# Altium integrated library Analog Devices Operational Amplifiers.IntLib: 2102 symbols (part 56 of 70)
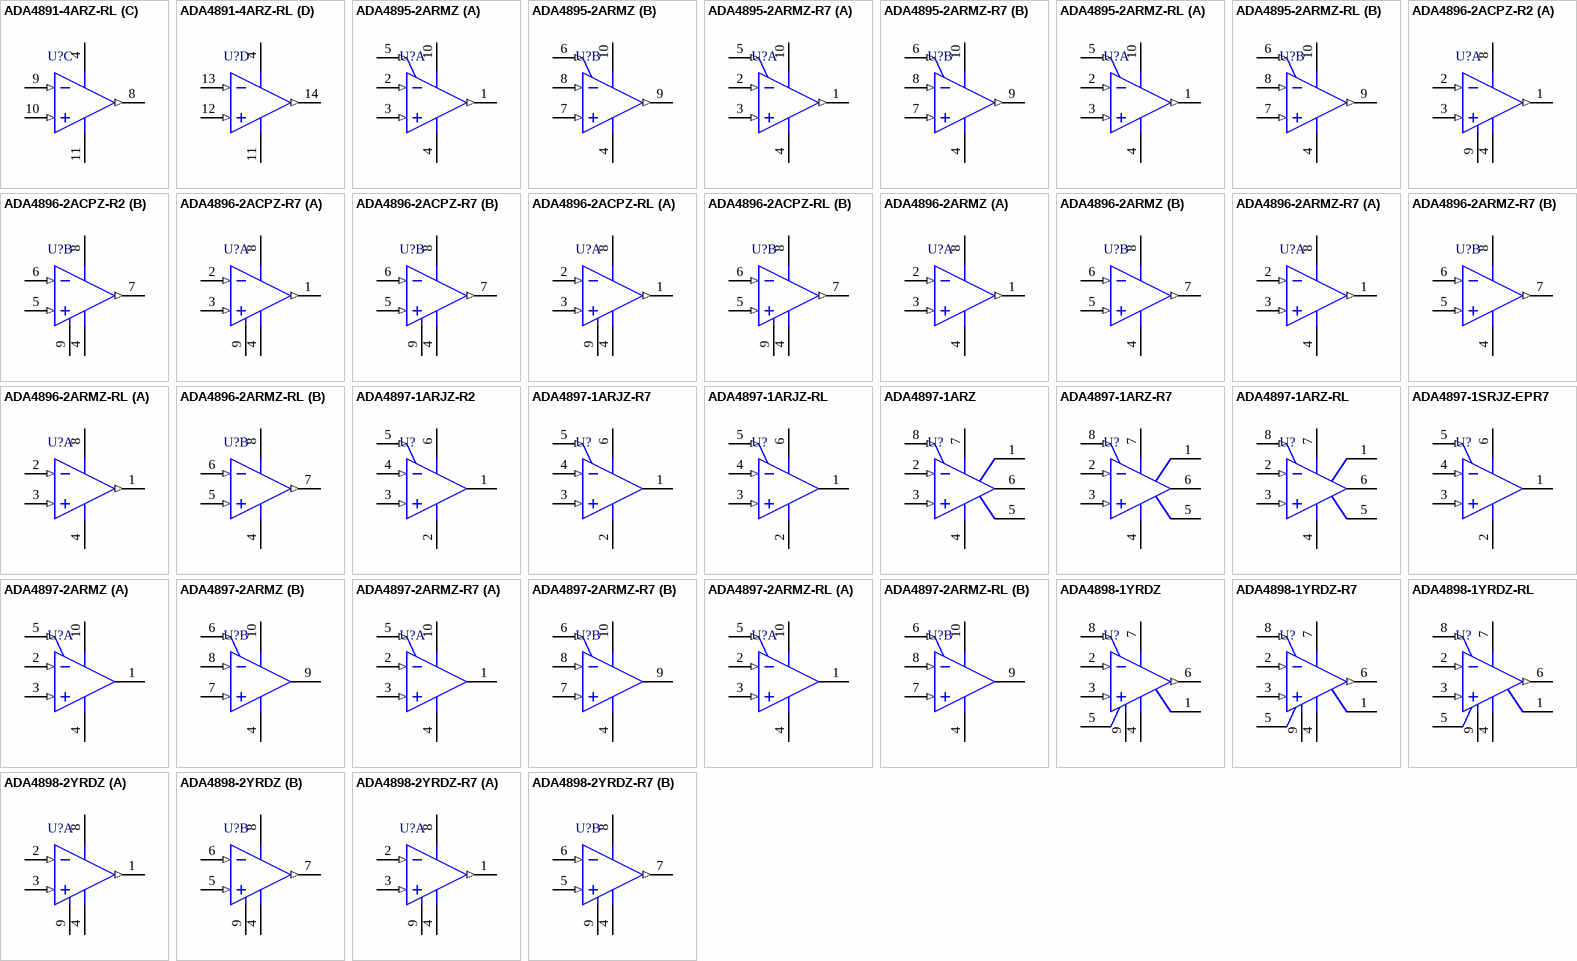
[diagram p169: symbols ADA4891-4ARZ-RL to ADA4898-2YRDZ-R7]

## ADA4895-2ARMZ-R7
designator U?
Double Channel Low Wide Band Noise Operational Amplifier, 236 MHz BW, 943 V/us SR, Industrial, 10-pin SOP (RM-10), Reel; Generic Part Number: ADA4895-2; Manufacturer: Analog Devices; PartNumber: ADA4895-2ARMZ-R7; Amplifiers Per Package: 2; Input Bias Current: 11uA; Input Offset Voltage: 28uV; Iq/Amp: 3mA; Small Signal Bandwidth: 236MHz; V Span Max: 10V; V Span Min: 3V; DatasheetVersion: Rev. 0; PackageReference: RM-10; PackageDescription: 10-Pin Mini Small Outline Package, Body 3 x 3 mm, Pitch 0.5 mm; Supplier 1: Digi-Key; Supplier Part Number 1: ADA4895-2ARMZ-R7TR-ND; Supplier 2: Digi-Key; Supplier Part Number 2: ADA4895-2ARMZ-R7CT-ND; Supplier 3: Digi-Key; Supplier Part Number 3: ADA4895-2ARMZ-R7DKR-ND; Supplier 4: Farnell; Supplier Part Number 4: 2250673; Supplier 5: Newark; Supplier Part Number 5: 45W7015; Supplier 6: Newark; Supplier Part Number 6: 47W3297; Packing: Reel; Slew Rate: 943V/us; Mounting Technology: Surface Mount; Code_JEDEC: MO-187-BA; ComponentLink1Description: Manufacturer URL; ComponentLink1URL: http://www.analog.com/en/index.html; ComponentLink2Description: Datasheet; ComponentLink2URL: http://www.analog.com/static/imported-files/data_sheets/ADA4895-2.PDF; ComponentLink3Description: Package Specification; ComponentLink3URL: http://www.analog.com/static/imported-files/packages/PKG_PDF/MSOP%28RM%29/RM_10.pdf
footprint ADI-RM-10_N (SOP, 10-Leads, Body 3x3mm, Pitch 0.5mm, IPC Medium Density)
footprint ADI-RM-10_L (SOP, 10-Leads, Body 3x3mm, Pitch 0.5mm, IPC High Density)
footprint ADI-RM-10_M (SOP, 10-Leads, Body 3x3mm, Pitch 0.5mm, IPC Low Density)
pins on every part: 4 -VS (power) "Negative Supply.", 10 +VS (power) "Positive Supply."
part A pins: 1 OUT 1 (out) "Output 1.", 2 -IN 1 (in) "Inverting Input 1.", 3 +IN 1 (in) "Noninverting Input 1.", 5 ~{DISABLE1} (in) "Disable 1."
part B pins: 6 ~{DISABLE2} (in) "Disable 2.", 7 +IN 2 (in) "Noninverting Input 2.", 8 -IN 2 (in) "Inverting Input 2.", 9 OUT 2 (out) "Output 2."

## ADA4895-2ARMZ-RL
designator U?
Double Channel Low Wide Band Noise Operational Amplifier, 236 MHz BW, 943 V/us SR, Industrial, 10-pin SOP (RM-10), Reel; Generic Part Number: ADA4895-2; Manufacturer: Analog Devices; PartNumber: ADA4895-2ARMZ-RL; Amplifiers Per Package: 2; Input Bias Current: 11uA; Input Offset Voltage: 28uV; Iq/Amp: 3mA; Small Signal Bandwidth: 236MHz; V Span Max: 10V; V Span Min: 3V; DatasheetVersion: Rev. 0; PackageReference: RM-10; PackageDescription: 10-Pin Mini Small Outline Package, Body 3 x 3 mm, Pitch 0.5 mm; Supplier 1: Digi-Key; Supplier Part Number 1: ADA4895-2ARMZ-RL-ND; Supplier 2: Newark; Supplier Part Number 2: 45W7014; Packing: Reel; Slew Rate: 943V/us; Mounting Technology: Surface Mount; Code_JEDEC: MO-187-BA; ComponentLink1Description: Manufacturer URL; ComponentLink1URL: http://www.analog.com/en/index.html; ComponentLink2Description: Datasheet; ComponentLink2URL: http://www.analog.com/static/imported-files/data_sheets/ADA4895-2.PDF; ComponentLink3Description: Package Specification; ComponentLink3URL: http://www.analog.com/static/imported-files/packages/PKG_PDF/MSOP%28RM%29/RM_10.pdf
footprint ADI-RM-10_N (SOP, 10-Leads, Body 3x3mm, Pitch 0.5mm, IPC Medium Density)
footprint ADI-RM-10_L (SOP, 10-Leads, Body 3x3mm, Pitch 0.5mm, IPC High Density)
footprint ADI-RM-10_M (SOP, 10-Leads, Body 3x3mm, Pitch 0.5mm, IPC Low Density)
pins on every part: 4 -VS (power) "Negative Supply.", 10 +VS (power) "Positive Supply."
part A pins: 1 OUT 1 (out) "Output 1.", 2 -IN 1 (in) "Inverting Input 1.", 3 +IN 1 (in) "Noninverting Input 1.", 5 ~{DISABLE1} (in) "Disable 1."
part B pins: 6 ~{DISABLE2} (in) "Disable 2.", 7 +IN 2 (in) "Noninverting Input 2.", 8 -IN 2 (in) "Inverting Input 2.", 9 OUT 2 (out) "Output 2."

## ADA4896-2ACPZ-R2
designator U?
Double Channel Low Wide Band Noise Operational Amplifier, 230 MHz BW, 120 V/us SR, Industrial, 8-pin SON (CP-8-11), Reel; Generic Part Number: ADA4896-2; Manufacturer: Analog Devices; PartNumber: ADA4896-2ACPZ-R2; Amplifiers Per Package: 2; Input Bias Current: 11uA; Input Offset Voltage: 28uV; Iq/Amp: 3mA; Small Signal Bandwidth: 230MHz; V Span Max: 10V; V Span Min: 3V; DatasheetVersion: Rev. B; PackageVersion: 01-24-2011-B; PackageReference: CP-8-11; PackageDescription: 8-Pin Lead Frame Chip Scale Package, Body 3 x 3 mm, Pitch 0.5 mm; Packing: Reel; Slew Rate: 120V/us; Mounting Technology: Surface Mount; Code_JEDEC: MO-229-WEED; ComponentLink1Description: Manufacturer URL; ComponentLink1URL: http://www.analog.com/en/index.html; ComponentLink2Description: Datasheet; ComponentLink2URL: http://www.analog.com/static/imported-files/data_sheets/ADA4896-2_4897-1_4897-2.PDF; ComponentLink3Description: Package Specification; ComponentLink3URL: http://www.analog.com/static/imported-files/packages/PKG_PDF/LFCSP(CP)/CP_8_11.pdf
footprint ADI-CP-8-11_N (SON, 8-Leads, Body 3x3mm, Pitch 0.5mm, Thermal Pad 2.34 x 1.60mm, IPC Medium Density)
footprint ADI-CP-8-11_L (SON, 8-Leads, Body 3x3mm, Pitch 0.5mm, Thermal Pad 2.34 x 1.60mm, IPC High Density)
footprint ADI-CP-8-11_M (SON, 8-Leads, Body 3x3mm, Pitch 0.5mm, Thermal Pad 2.34 x 1.60mm, IPC Low Density)
pins on every part: 4 -VS (power), 8 +VS (power), 9 EP
part A pins: 1 OUT 1 (out), 2 -IN 1 (in), 3 +IN 1 (in)
part B pins: 5 +IN 2 (in), 6 -IN 2 (in), 7 OUT 2 (out)

## ADA4896-2ACPZ-R7
designator U?
Double Channel Low Wide Band Noise Operational Amplifier, 230 MHz BW, 120 V/us SR, Industrial, 8-pin SON (CP-8-11), Reel; Generic Part Number: ADA4896-2; Manufacturer: Analog Devices; PartNumber: ADA4896-2ACPZ-R7; Amplifiers Per Package: 2; Input Bias Current: 11uA; Input Offset Voltage: 28uV; Iq/Amp: 3mA; Small Signal Bandwidth: 230MHz; V Span Max: 10V; V Span Min: 3V; DatasheetVersion: Rev. B; PackageVersion: 01-24-2011-B; PackageReference: CP-8-11; PackageDescription: 8-Pin Lead Frame Chip Scale Package, Body 3 x 3 mm, Pitch 0.5 mm; Supplier 1: Digi-Key; Supplier Part Number 1: ADA4896-2ACPZ-R7-ND; Supplier 2: Newark; Supplier Part Number 2: 58T8813; Packing: Reel; Slew Rate: 120V/us; Mounting Technology: Surface Mount; Code_JEDEC: MO-229-WEED; ComponentLink1Description: Manufacturer URL; ComponentLink1URL: http://www.analog.com/en/index.html; ComponentLink2Description: Datasheet; ComponentLink2URL: http://www.analog.com/static/imported-files/data_sheets/ADA4896-2_4897-1_4897-2.PDF; ComponentLink3Description: Package Specification; ComponentLink3URL: http://www.analog.com/static/imported-files/packages/PKG_PDF/LFCSP(CP)/CP_8_11.pdf
footprint ADI-CP-8-11_N (SON, 8-Leads, Body 3x3mm, Pitch 0.5mm, Thermal Pad 2.34 x 1.60mm, IPC Medium Density)
footprint ADI-CP-8-11_L (SON, 8-Leads, Body 3x3mm, Pitch 0.5mm, Thermal Pad 2.34 x 1.60mm, IPC High Density)
footprint ADI-CP-8-11_M (SON, 8-Leads, Body 3x3mm, Pitch 0.5mm, Thermal Pad 2.34 x 1.60mm, IPC Low Density)
pins on every part: 4 -VS (power), 8 +VS (power), 9 EP
part A pins: 1 OUT 1 (out), 2 -IN 1 (in), 3 +IN 1 (in)
part B pins: 5 +IN 2 (in), 6 -IN 2 (in), 7 OUT 2 (out)

## ADA4896-2ACPZ-RL
designator U?
Double Channel Low Wide Band Noise Operational Amplifier, 230 MHz BW, 120 V/us SR, Industrial, 8-pin SON (CP-8-11), Reel; Generic Part Number: ADA4896-2; Manufacturer: Analog Devices; PartNumber: ADA4896-2ACPZ-RL; Amplifiers Per Package: 2; Input Bias Current: 11uA; Input Offset Voltage: 28uV; Iq/Amp: 3mA; Small Signal Bandwidth: 230MHz; V Span Max: 10V; V Span Min: 3V; DatasheetVersion: Rev. B; PackageVersion: 01-24-2011-B; PackageReference: CP-8-11; PackageDescription: 8-Pin Lead Frame Chip Scale Package, Body 3 x 3 mm, Pitch 0.5 mm; Supplier 1: Digi-Key; Supplier Part Number 1: ADA4896-2ACPZ-RL-ND; Packing: Reel; Slew Rate: 120V/us; Mounting Technology: Surface Mount; Code_JEDEC: MO-229-WEED; ComponentLink1Description: Manufacturer URL; ComponentLink1URL: http://www.analog.com/en/index.html; ComponentLink2Description: Datasheet; ComponentLink2URL: http://www.analog.com/static/imported-files/data_sheets/ADA4896-2_4897-1_4897-2.PDF; ComponentLink3Description: Package Specification; ComponentLink3URL: http://www.analog.com/static/imported-files/packages/PKG_PDF/LFCSP(CP)/CP_8_11.pdf
footprint ADI-CP-8-11_N (SON, 8-Leads, Body 3x3mm, Pitch 0.5mm, Thermal Pad 2.34 x 1.60mm, IPC Medium Density)
footprint ADI-CP-8-11_L (SON, 8-Leads, Body 3x3mm, Pitch 0.5mm, Thermal Pad 2.34 x 1.60mm, IPC High Density)
footprint ADI-CP-8-11_M (SON, 8-Leads, Body 3x3mm, Pitch 0.5mm, Thermal Pad 2.34 x 1.60mm, IPC Low Density)
pins on every part: 4 -VS (power), 8 +VS (power), 9 EP
part A pins: 1 OUT 1 (out), 2 -IN 1 (in), 3 +IN 1 (in)
part B pins: 5 +IN 2 (in), 6 -IN 2 (in), 7 OUT 2 (out)

## ADA4896-2ARMZ
designator U?
Double Channel Low Wide Band Noise Operational Amplifier, 230 MHz BW, 120 V/us SR, Industrial, 8-pin SOP (RM-8), Tube; Generic Part Number: ADA4896-2; Manufacturer: Analog Devices; PartNumber: ADA4896-2ARMZ; Amplifiers Per Package: 2; Input Bias Current: 11uA; Input Offset Voltage: 28uV; Iq/Amp: 3mA; Small Signal Bandwidth: 230MHz; V Span Max: 10V; V Span Min: 3V; DatasheetVersion: Rev. B; PackageReference: RM-8; PackageDescription: 8-Pin Mini Small Outline Package, Body 3 x 3 mm, Pitch 0.65 mm; Supplier 1: Digi-Key; Supplier Part Number 1: ADA4896-2ARMZ-ND; Supplier 2: Farnell; Supplier Part Number 2: 2008778; Supplier 3: Newark; Supplier Part Number 3: 58T8814; Packing: Tube; Slew Rate: 120V/us; Mounting Technology: Surface Mount; Code_JEDEC: MO-187-AA; ComponentLink1Description: Manufacturer URL; ComponentLink1URL: http://www.analog.com/en/index.html; ComponentLink2Description: Datasheet; ComponentLink2URL: http://www.analog.com/static/imported-files/data_sheets/ADA4896-2_4897-1_4897-2.PDF; ComponentLink3Description: Package Specification; ComponentLink3URL: http://www.analog.com/static/imported-files/packages/PKG_PDF/MSOP%28RM%29/RM_8.pdf
footprint ADI-RM-8_N (SOP, 8-Leads, Body 3x3mm, Pitch 0.65mm, IPC Medium Density)
footprint ADI-RM-8_L (SOP, 8-Leads, Body 3x3mm, Pitch 0.65mm, IPC High Density)
footprint ADI-RM-8_M (SOP, 8-Leads, Body 3x3mm, Pitch 0.65mm, IPC Low Density)
pins on every part: 4 -VS (power), 8 +VS (power)
part A pins: 1 OUT 1 (out), 2 -IN 1 (in), 3 +IN 1 (in)
part B pins: 5 +IN 2 (in), 6 -IN 2 (in), 7 OUT 2 (out)

## ADA4896-2ARMZ-R7
designator U?
Double Channel Low Wide Band Noise Operational Amplifier, 230 MHz BW, 120 V/us SR, Industrial, 8-pin SOP (RM-8), Reel; Generic Part Number: ADA4896-2; Manufacturer: Analog Devices; PartNumber: ADA4896-2ARMZ-R7; Amplifiers Per Package: 2; Input Bias Current: 11uA; Input Offset Voltage: 28uV; Iq/Amp: 3mA; Small Signal Bandwidth: 230MHz; V Span Max: 10V; V Span Min: 3V; DatasheetVersion: Rev. B; PackageReference: RM-8; PackageDescription: 8-Pin Mini Small Outline Package, Body 3 x 3 mm, Pitch 0.65 mm; Supplier 1: Digi-Key; Supplier Part Number 1: ADA4896-2ARMZ-R7TR-ND; Supplier 2: Digi-Key; Supplier Part Number 2: ADA4896-2ARMZ-R7CT-ND; Supplier 3: Digi-Key; Supplier Part Number 3: ADA4896-2ARMZ-R7DKR-ND; Supplier 4: Newark; Supplier Part Number 4: 58T8815; Packing: Reel; Slew Rate: 120V/us; Mounting Technology: Surface Mount; Code_JEDEC: MO-187-AA; ComponentLink1Description: Manufacturer URL; ComponentLink1URL: http://www.analog.com/en/index.html; ComponentLink2Description: Datasheet; ComponentLink2URL: http://www.analog.com/static/imported-files/data_sheets/ADA4896-2_4897-1_4897-2.PDF; ComponentLink3Description: Package Specification; ComponentLink3URL: http://www.analog.com/static/imported-files/packages/PKG_PDF/MSOP%28RM%29/RM_8.pdf
footprint ADI-RM-8_N (SOP, 8-Leads, Body 3x3mm, Pitch 0.65mm, IPC Medium Density)
footprint ADI-RM-8_L (SOP, 8-Leads, Body 3x3mm, Pitch 0.65mm, IPC High Density)
footprint ADI-RM-8_M (SOP, 8-Leads, Body 3x3mm, Pitch 0.65mm, IPC Low Density)
pins on every part: 4 -VS (power), 8 +VS (power)
part A pins: 1 OUT 1 (out), 2 -IN 1 (in), 3 +IN 1 (in)
part B pins: 5 +IN 2 (in), 6 -IN 2 (in), 7 OUT 2 (out)

## ADA4896-2ARMZ-RL
designator U?
Double Channel Low Wide Band Noise Operational Amplifier, 230 MHz BW, 120 V/us SR, Industrial, 8-pin SOP (RM-8), Reel; Generic Part Number: ADA4896-2; Manufacturer: Analog Devices; PartNumber: ADA4896-2ARMZ-RL; Amplifiers Per Package: 2; Input Bias Current: 11uA; Input Offset Voltage: 28uV; Iq/Amp: 3mA; Small Signal Bandwidth: 230MHz; V Span Max: 10V; V Span Min: 3V; DatasheetVersion: Rev. B; PackageReference: RM-8; PackageDescription: 8-Pin Mini Small Outline Package, Body 3 x 3 mm, Pitch 0.65 mm; Packing: Reel; Slew Rate: 120V/us; Mounting Technology: Surface Mount; Code_JEDEC: MO-187-AA; ComponentLink1Description: Manufacturer URL; ComponentLink1URL: http://www.analog.com/en/index.html; ComponentLink2Description: Datasheet; ComponentLink2URL: http://www.analog.com/static/imported-files/data_sheets/ADA4896-2_4897-1_4897-2.PDF; ComponentLink3Description: Package Specification; ComponentLink3URL: http://www.analog.com/static/imported-files/packages/PKG_PDF/MSOP%28RM%29/RM_8.pdf
footprint ADI-RM-8_N (SOP, 8-Leads, Body 3x3mm, Pitch 0.65mm, IPC Medium Density)
footprint ADI-RM-8_L (SOP, 8-Leads, Body 3x3mm, Pitch 0.65mm, IPC High Density)
footprint ADI-RM-8_M (SOP, 8-Leads, Body 3x3mm, Pitch 0.65mm, IPC Low Density)
pins on every part: 4 -VS (power), 8 +VS (power)
part A pins: 1 OUT 1 (out), 2 -IN 1 (in), 3 +IN 1 (in)
part B pins: 5 +IN 2 (in), 6 -IN 2 (in), 7 OUT 2 (out)

## ADA4897-1ARJZ-R2
designator U?
Single Channel Low Wide Band Noise Operational Amplifier, 230 MHz BW, 120 V/us SR, Industrial, 6-pin SOT23 (RJ-6), Reel; Generic Part Number: ADA4897-1; Manufacturer: Analog Devices; PartNumber: ADA4897-1ARJZ-R2; Amplifiers Per Package: 1; Input Bias Current: 11uA; Input Offset Voltage: 28uV; Iq/Amp: 3mA; Small Signal Bandwidth: 230MHz; V Span Max: 10V; V Span Min: 3V; DatasheetVersion: Rev. B; PackageVersion: 121608-A; PackageReference: RJ-6; PackageDescription: 6-Pin Small Outline Transistor Package, Body 2.9 x 1.6 mm, Pitch 0.95 mm; Packing: Reel; Slew Rate: 120V/us; Mounting Technology: Surface Mount; Code_JEDEC: MO-178-AB; ComponentLink1Description: Manufacturer URL; ComponentLink1URL: http://www.analog.com/en/index.html; ComponentLink2Description: Datasheet; ComponentLink2URL: http://www.analog.com/static/imported-files/data_sheets/ADA4896-2_4897-1_4897-2.PDF; ComponentLink3Description: Package Specification; ComponentLink3URL: http://www.analog.com/static/imported-files/packages/PKG_PDF/SOT-23(RJ)/RJ_6.pdf; ComponentLink4Description: Reference Circuit; ComponentLink4URL: http://search.analog.com/search/ProductSearch.aspx?query=ada4897-1&amp;locale=en#product-recommendations
footprint ADI-RJ-6_N (SOT23, 6-Leads, Body 2.9x1.6mm, Pitch 0.95mm, IPC Medium Density)
footprint ADI-RJ-6_L (SOT23, 6-Leads, Body 2.9x1.6mm, Pitch 0.95mm, IPC High Density)
footprint ADI-RJ-6_M (SOT23, 6-Leads, Body 2.9x1.6mm, Pitch 0.95mm, IPC Low Density)
pins: 1 OUT (hiz) "Output.", 2 -VS (power) "Negative Supply.", 3 +IN (in) "Noninverting Input.", 4 -IN (in) "Inverting Input.", 5 ~{DISABLE} (in) "Disable.", 6 +VS (power) "Positive Supply."

## ADA4897-1ARJZ-R7
designator U?
Single Channel Low Wide Band Noise Operational Amplifier, 230 MHz BW, 120 V/us SR, Industrial, 6-pin SOT23 (RJ-6), Reel; Generic Part Number: ADA4897-1; Manufacturer: Analog Devices; PartNumber: ADA4897-1ARJZ-R7; Amplifiers Per Package: 1; Input Bias Current: 11uA; Input Offset Voltage: 28uV; Iq/Amp: 3mA; Small Signal Bandwidth: 230MHz; V Span Max: 10V; V Span Min: 3V; DatasheetVersion: Rev. B; PackageVersion: 121608-A; PackageReference: RJ-6; PackageDescription: 6-Pin Small Outline Transistor Package, Body 2.9 x 1.6 mm, Pitch 0.95 mm; Supplier 1: Digi-Key; Supplier Part Number 1: ADA4897-1ARJZ-R7TR-ND; Supplier 2: Digi-Key; Supplier Part Number 2: ADA4897-1ARJZ-R7CT-ND; Supplier 3: Digi-Key; Supplier Part Number 3: ADA4897-1ARJZ-R7DKR-ND; Supplier 4: Newark; Supplier Part Number 4: 58T8817; Packing: Reel; Slew Rate: 120V/us; Mounting Technology: Surface Mount; Code_JEDEC: MO-178-AB; ComponentLink1Description: Manufacturer URL; ComponentLink1URL: http://www.analog.com/en/index.html; ComponentLink2Description: Datasheet; ComponentLink2URL: http://www.analog.com/static/imported-files/data_sheets/ADA4896-2_4897-1_4897-2.PDF; ComponentLink3Description: Package Specification; ComponentLink3URL: http://www.analog.com/static/imported-files/packages/PKG_PDF/SOT-23(RJ)/RJ_6.pdf; ComponentLink4Description: Reference Circuit; ComponentLink4URL: http://search.analog.com/search/ProductSearch.aspx?query=ada4897-1&amp;locale=en#product-recommendations
footprint ADI-RJ-6_N (SOT23, 6-Leads, Body 2.9x1.6mm, Pitch 0.95mm, IPC Medium Density)
footprint ADI-RJ-6_L (SOT23, 6-Leads, Body 2.9x1.6mm, Pitch 0.95mm, IPC High Density)
footprint ADI-RJ-6_M (SOT23, 6-Leads, Body 2.9x1.6mm, Pitch 0.95mm, IPC Low Density)
pins: 1 OUT (hiz) "Output.", 2 -VS (power) "Negative Supply.", 3 +IN (in) "Noninverting Input.", 4 -IN (in) "Inverting Input.", 5 ~{DISABLE} (in) "Disable.", 6 +VS (power) "Positive Supply."

## ADA4897-1ARJZ-RL
designator U?
Single Channel Low Wide Band Noise Operational Amplifier, 230 MHz BW, 120 V/us SR, Industrial, 6-pin SOT23 (RJ-6), Reel; Generic Part Number: ADA4897-1; Manufacturer: Analog Devices; PartNumber: ADA4897-1ARJZ-RL; Amplifiers Per Package: 1; Input Bias Current: 11uA; Input Offset Voltage: 28uV; Iq/Amp: 3mA; Small Signal Bandwidth: 230MHz; V Span Max: 10V; V Span Min: 3V; DatasheetVersion: Rev. B; PackageVersion: 121608-A; PackageReference: RJ-6; PackageDescription: 6-Pin Small Outline Transistor Package, Body 2.9 x 1.6 mm, Pitch 0.95 mm; Supplier 1: Digi-Key; Supplier Part Number 1: ADA4897-1ARJZ-RL-ND; Supplier 2: Newark; Supplier Part Number 2: 58T8816; Packing: Reel; Slew Rate: 120V/us; Mounting Technology: Surface Mount; Code_JEDEC: MO-178-AB; ComponentLink1Description: Manufacturer URL; ComponentLink1URL: http://www.analog.com/en/index.html; ComponentLink2Description: Datasheet; ComponentLink2URL: http://www.analog.com/static/imported-files/data_sheets/ADA4896-2_4897-1_4897-2.PDF; ComponentLink3Description: Package Specification; ComponentLink3URL: http://www.analog.com/static/imported-files/packages/PKG_PDF/SOT-23(RJ)/RJ_6.pdf; ComponentLink4Description: Reference Circuit; ComponentLink4URL: http://search.analog.com/search/ProductSearch.aspx?query=ada4897-1&amp;locale=en#product-recommendations
footprint ADI-RJ-6_N (SOT23, 6-Leads, Body 2.9x1.6mm, Pitch 0.95mm, IPC Medium Density)
footprint ADI-RJ-6_L (SOT23, 6-Leads, Body 2.9x1.6mm, Pitch 0.95mm, IPC High Density)
footprint ADI-RJ-6_M (SOT23, 6-Leads, Body 2.9x1.6mm, Pitch 0.95mm, IPC Low Density)
pins: 1 OUT (hiz) "Output.", 2 -VS (power) "Negative Supply.", 3 +IN (in) "Noninverting Input.", 4 -IN (in) "Inverting Input.", 5 ~{DISABLE} (in) "Disable.", 6 +VS (power) "Positive Supply."

## ADA4897-1ARZ
designator U?
Single Channel Low Wide Band Noise Operational Amplifier, 230 MHz BW, 120 V/us SR, Industrial, 8-pin SOIC (R-8), Tube; Generic Part Number: ADA4897-1; Manufacturer: Analog Devices; PartNumber: ADA4897-1ARZ; Amplifiers Per Package: 1; Input Bias Current: 11uA; Input Offset Voltage: 28uV; Iq/Amp: 3mA; Small Signal Bandwidth: 230MHz; V Span Max: 10V; V Span Min: 3V; DatasheetVersion: Rev. B; PackageVersion: 060506-A; PackageReference: R-8; PackageDescription: 8-Pin Standard Small Outline Package, Body 3.9 x 4.9 mm, Pitch 1.27 mm; Supplier 1: Digi-Key; Supplier Part Number 1: ADA4897-1ARZ-ND; Supplier 2: Farnell; Supplier Part Number 2: 2008779; Supplier 3: Newark; Supplier Part Number 3: 58T8818; Packing: Tube; Slew Rate: 120V/us; Mounting Technology: Surface Mount; Code_JEDEC: MS-012-AA; ComponentLink1Description: Manufacturer URL; ComponentLink1URL: http://www.analog.com/en/index.html; ComponentLink2Description: Datasheet; ComponentLink2URL: http://www.analog.com/static/imported-files/data_sheets/ADA4896-2_4897-1_4897-2.PDF; ComponentLink3Description: Package Specification; ComponentLink3URL: http://www.analog.com/static/imported-files/packages/PKG_PDF/SOIC_Narrow%20(R)/R_8.pdf; ComponentLink4Description: Reference Circuit; ComponentLink4URL: http://search.analog.com/search/ProductSearch.aspx?query=ada4897-1&amp;locale=en#product-recommendations
footprint ADI-R-8_N (SOIC, 8-Leads, Body 4.9x3.9mm, Pitch 1.27mm, IPC Medium Density)
footprint ADI-R-8_L (SOIC, 8-Leads, Body 4.9x3.9mm, Pitch 1.27mm, IPC High Density)
footprint ADI-R-8_M (SOIC, 8-Leads, Body 4.9x3.9mm, Pitch 1.27mm, IPC Low Density)
pins: 1 NC, 2 -IN (in), 3 +IN (in), 4 -VS (power), 5 NC, 6 OUT (hiz), 7 +VS (power), 8 ~{DISABLE} (in)

## ADA4897-1ARZ-R7
designator U?
Single Channel Low Wide Band Noise Operational Amplifier, 230 MHz BW, 120 V/us SR, Industrial, 8-pin SOIC (R-8), Reel; Generic Part Number: ADA4897-1; Manufacturer: Analog Devices; PartNumber: ADA4897-1ARZ-R7; Amplifiers Per Package: 1; Input Bias Current: 11uA; Input Offset Voltage: 28uV; Iq/Amp: 3mA; Small Signal Bandwidth: 230MHz; V Span Max: 10V; V Span Min: 3V; DatasheetVersion: Rev. B; PackageVersion: 060506-A; PackageReference: R-8; PackageDescription: 8-Pin Standard Small Outline Package, Body 3.9 x 4.9 mm, Pitch 1.27 mm; Supplier 1: Digi-Key; Supplier Part Number 1: ADA4897-1ARZ-R7TR-ND; Supplier 2: Digi-Key; Supplier Part Number 2: ADA4897-1ARZ-R7CT-ND; Supplier 3: Digi-Key; Supplier Part Number 3: ADA4897-1ARZ-R7DKR-ND; Packing: Reel; Slew Rate: 120V/us; Mounting Technology: Surface Mount; Code_JEDEC: MS-012-AA; ComponentLink1Description: Manufacturer URL; ComponentLink1URL: http://www.analog.com/en/index.html; ComponentLink2Description: Datasheet; ComponentLink2URL: http://www.analog.com/static/imported-files/data_sheets/ADA4896-2_4897-1_4897-2.PDF; ComponentLink3Description: Package Specification; ComponentLink3URL: http://www.analog.com/static/imported-files/packages/PKG_PDF/SOIC_Narrow%20(R)/R_8.pdf; ComponentLink4Description: Reference Circuit; ComponentLink4URL: http://search.analog.com/search/ProductSearch.aspx?query=ada4897-1&amp;locale=en#product-recommendations
footprint ADI-R-8_N (SOIC, 8-Leads, Body 4.9x3.9mm, Pitch 1.27mm, IPC Medium Density)
footprint ADI-R-8_L (SOIC, 8-Leads, Body 4.9x3.9mm, Pitch 1.27mm, IPC High Density)
footprint ADI-R-8_M (SOIC, 8-Leads, Body 4.9x3.9mm, Pitch 1.27mm, IPC Low Density)
pins: 1 NC, 2 -IN (in), 3 +IN (in), 4 -VS (power), 5 NC, 6 OUT (hiz), 7 +VS (power), 8 ~{DISABLE} (in)

## ADA4897-1ARZ-RL
designator U?
Single Channel Low Wide Band Noise Operational Amplifier, 230 MHz BW, 120 V/us SR, Industrial, 8-pin SOIC (R-8), Reel; Generic Part Number: ADA4897-1; Manufacturer: Analog Devices; PartNumber: ADA4897-1ARZ-RL; Amplifiers Per Package: 1; Input Bias Current: 11uA; Input Offset Voltage: 28uV; Iq/Amp: 3mA; Small Signal Bandwidth: 230MHz; V Span Max: 10V; V Span Min: 3V; DatasheetVersion: Rev. B; PackageVersion: 060506-A; PackageReference: R-8; PackageDescription: 8-Pin Standard Small Outline Package, Body 3.9 x 4.9 mm, Pitch 1.27 mm; Supplier 1: Digi-Key; Supplier Part Number 1: ADA4897-1ARZ-RL-ND; Packing: Reel; Slew Rate: 120V/us; Mounting Technology: Surface Mount; Code_JEDEC: MS-012-AA; ComponentLink1Description: Manufacturer URL; ComponentLink1URL: http://www.analog.com/en/index.html; ComponentLink2Description: Datasheet; ComponentLink2URL: http://www.analog.com/static/imported-files/data_sheets/ADA4896-2_4897-1_4897-2.PDF; ComponentLink3Description: Package Specification; ComponentLink3URL: http://www.analog.com/static/imported-files/packages/PKG_PDF/SOIC_Narrow%20(R)/R_8.pdf; ComponentLink4Description: Reference Circuit; ComponentLink4URL: http://search.analog.com/search/ProductSearch.aspx?query=ada4897-1&amp;locale=en#product-recommendations
footprint ADI-R-8_N (SOIC, 8-Leads, Body 4.9x3.9mm, Pitch 1.27mm, IPC Medium Density)
footprint ADI-R-8_L (SOIC, 8-Leads, Body 4.9x3.9mm, Pitch 1.27mm, IPC High Density)
footprint ADI-R-8_M (SOIC, 8-Leads, Body 4.9x3.9mm, Pitch 1.27mm, IPC Low Density)
pins: 1 NC, 2 -IN (in), 3 +IN (in), 4 -VS (power), 5 NC, 6 OUT (hiz), 7 +VS (power), 8 ~{DISABLE} (in)

## ADA4897-1SRJZ-EPR7
designator U?
Single Channel Low Wide Band Noise Operational Amplifier, 230 MHz BW, 120 V/us SR, Industrial, 6-pin SOT23 (RJ-6), Reel; Generic Part Number: ADA4897-1; Manufacturer: Analog Devices; PartNumber: ADA4897-1SRJZ-EPR7; Amplifiers Per Package: 1; Input Bias Current: 11uA; Input Offset Voltage: 28uV; Iq/Amp: 3mA; Small Signal Bandwidth: 230MHz; V Span Max: 10V; V Span Min: 3V; DatasheetVersion: Rev. B; PackageVersion: 121608-A; PackageReference: RJ-6; PackageDescription: 6-Pin Small Outline Transistor Package, Body 2.9 x 1.6 mm, Pitch 0.95 mm; Packing: Reel; Slew Rate: 120V/us; Mounting Technology: Surface Mount; Code_JEDEC: MO-178-AB; ComponentLink1Description: Manufacturer URL; ComponentLink1URL: http://www.analog.com/en/index.html; ComponentLink2Description: Datasheet; ComponentLink2URL: http://www.analog.com/static/imported-files/data_sheets/ADA4896-2_4897-1_4897-2.PDF; ComponentLink3Description: Package Specification; ComponentLink3URL: http://www.analog.com/static/imported-files/packages/PKG_PDF/SOT-23(RJ)/RJ_6.pdf; ComponentLink4Description: Reference Circuit; ComponentLink4URL: http://search.analog.com/search/ProductSearch.aspx?query=ada4897-1&amp;locale=en#product-recommendations
footprint ADI-RJ-6_N (SOT23, 6-Leads, Body 2.9x1.6mm, Pitch 0.95mm, IPC Medium Density)
footprint ADI-RJ-6_L (SOT23, 6-Leads, Body 2.9x1.6mm, Pitch 0.95mm, IPC High Density)
footprint ADI-RJ-6_M (SOT23, 6-Leads, Body 2.9x1.6mm, Pitch 0.95mm, IPC Low Density)
pins: 1 OUT (hiz) "Output.", 2 -VS (power) "Negative Supply.", 3 +IN (in) "Noninverting Input.", 4 -IN (in) "Inverting Input.", 5 ~{DISABLE} (in) "Disable.", 6 +VS (power) "Positive Supply."

## ADA4897-2ARMZ
designator U?
Double Channel Rail-to-Rail Operational Amplifier, 230 MHz BW, 120 V/us SR, Industrial, 10-pin SOP (RM-10), Tube; Generic Part Number: ADA4897-2; Manufacturer: Analog Devices; PartNumber: ADA4897-2ARMZ; Amplifiers Per Package: 2; Input Bias Current: 11uA; Input Offset Voltage: 28uV; Iq/Amp: 3mA; Small Signal Bandwidth: 230MHz; V Span Max: 10V; V Span Min: 3V; DatasheetVersion: Rev. B; PackageReference: RM-10; PackageDescription: 10-Pin Mini Small Outline Package, Body 3 x 3 mm, Pitch 0.5 mm; Supplier 1: Digi-Key; Supplier Part Number 1: ADA4897-2ARMZ-ND; Supplier 2: Farnell; Supplier Part Number 2: 2070701; Supplier 3: Newark; Supplier Part Number 3: 72T3482; Slew Rate: 120V/us; Mounting Technology: Surface Mount; Code_JEDEC: MO-187-BA; ComponentLink1Description: Manufacturer URL; ComponentLink1URL: http://www.analog.com/en/index.html; ComponentLink2Description: Datasheet; ComponentLink2URL: http://www.analog.com/static/imported-files/data_sheets/ADA4896-2_4897-1_4897-2.PDF; ComponentLink3Description: Package Specification; ComponentLink3URL: http://www.analog.com/static/imported-files/packages/PKG_PDF/MSOP%28RM%29/RM_10.pdf; ComponentLink4Description: Reference Circuit; ComponentLink4URL: http://search.analog.com/search/ProductSearch.aspx?query=ada4897-2&amp;locale=en#product-recommendations
footprint ADI-RM-10_N (SOP, 10-Leads, Body 3x3mm, Pitch 0.5mm, IPC Medium Density)
footprint ADI-RM-10_L (SOP, 10-Leads, Body 3x3mm, Pitch 0.5mm, IPC High Density)
footprint ADI-RM-10_M (SOP, 10-Leads, Body 3x3mm, Pitch 0.5mm, IPC Low Density)
pins on every part: 4 -VS (power) "Negative Supply.", 10 +VS (power) "Positive Supply."
part A pins: 1 OUT 1 (hiz) "Output 1.", 2 -IN 1 (in) "Inverting Input 1.", 3 +IN 1 (in) "Noninverting Input 1.", 5 ~{DISABLE1} (in) "Disable 1."
part B pins: 6 ~{DISABLE2} (in) "Disable 2.", 7 +IN 2 (in) "Noninverting Input 2.", 8 -IN 2 (in) "Inverting Input 2.", 9 OUT 2 (hiz) "Output 2."

## ADA4897-2ARMZ-R7
designator U?
Double Channel Rail-to-Rail Operational Amplifier, 230 MHz BW, 120 V/us SR, Industrial, 10-pin SOP (RM-10), Reel; Generic Part Number: ADA4897-2; Manufacturer: Analog Devices; PartNumber: ADA4897-2ARMZ-R7; Amplifiers Per Package: 2; Input Bias Current: 11uA; Input Offset Voltage: 28uV; Iq/Amp: 3mA; Small Signal Bandwidth: 230MHz; V Span Max: 10V; V Span Min: 3V; DatasheetVersion: Rev. B; PackageReference: RM-10; PackageDescription: 10-Pin Mini Small Outline Package, Body 3 x 3 mm, Pitch 0.5 mm; Supplier 1: Digi-Key; Supplier Part Number 1: ADA4897-2ARMZ-R7-ND; Slew Rate: 120V/us; Mounting Technology: Surface Mount; Code_JEDEC: MO-187-BA; ComponentLink1Description: Manufacturer URL; ComponentLink1URL: http://www.analog.com/en/index.html; ComponentLink2Description: Datasheet; ComponentLink2URL: http://www.analog.com/static/imported-files/data_sheets/ADA4896-2_4897-1_4897-2.PDF; ComponentLink3Description: Package Specification; ComponentLink3URL: http://www.analog.com/static/imported-files/packages/PKG_PDF/MSOP%28RM%29/RM_10.pdf; ComponentLink4Description: Reference Circuit; ComponentLink4URL: http://search.analog.com/search/ProductSearch.aspx?query=ada4897-2&amp;locale=en#product-recommendations
footprint ADI-RM-10_N (SOP, 10-Leads, Body 3x3mm, Pitch 0.5mm, IPC Medium Density)
footprint ADI-RM-10_L (SOP, 10-Leads, Body 3x3mm, Pitch 0.5mm, IPC High Density)
footprint ADI-RM-10_M (SOP, 10-Leads, Body 3x3mm, Pitch 0.5mm, IPC Low Density)
pins on every part: 4 -VS (power) "Negative Supply.", 10 +VS (power) "Positive Supply."
part A pins: 1 OUT 1 (hiz) "Output 1.", 2 -IN 1 (in) "Inverting Input 1.", 3 +IN 1 (in) "Noninverting Input 1.", 5 ~{DISABLE1} (in) "Disable 1."
part B pins: 6 ~{DISABLE2} (in) "Disable 2.", 7 +IN 2 (in) "Noninverting Input 2.", 8 -IN 2 (in) "Inverting Input 2.", 9 OUT 2 (hiz) "Output 2."

## ADA4897-2ARMZ-RL
designator U?
Double Channel Low Wide Band Noise Operational Amplifier, 230 MHz BW, 120 V/us SR, Industrial, 10-pin SOP (RM-10), Reel; Generic Part Number: ADA4897-2; Manufacturer: Analog Devices; PartNumber: ADA4897-2ARMZ-RL; Amplifiers Per Package: 2; Input Bias Current: 11uA; Input Offset Voltage: 28uV; Iq/Amp: 3mA; Small Signal Bandwidth: 230MHz; V Span Max: 10V; V Span Min: 3V; DatasheetVersion: Rev. B; PackageReference: RM-10; PackageDescription: 10-Pin Mini Small Outline Package, Body 3 x 3 mm, Pitch 0.5 mm; Supplier 1: Digi-Key; Supplier Part Number 1: ADA4897-2ARMZ-RL-ND; Packing: Reel; Slew Rate: 120V/us; Mounting Technology: Surface Mount; Code_JEDEC: MO-187-BA; ComponentLink1Description: Manufacturer URL; ComponentLink1URL: http://www.analog.com/en/index.html; ComponentLink2Description: Datasheet; ComponentLink2URL: http://www.analog.com/static/imported-files/data_sheets/ADA4896-2_4897-1_4897-2.PDF; ComponentLink3Description: Package Specification; ComponentLink3URL: http://www.analog.com/static/imported-files/packages/PKG_PDF/MSOP%28RM%29/RM_10.pdf; ComponentLink4Description: Reference Circuit; ComponentLink4URL: http://search.analog.com/search/ProductSearch.aspx?query=ada4897-2&amp;locale=en#product-recommendations
footprint ADI-RM-10_N (SOP, 10-Leads, Body 3x3mm, Pitch 0.5mm, IPC Medium Density)
footprint ADI-RM-10_L (SOP, 10-Leads, Body 3x3mm, Pitch 0.5mm, IPC High Density)
footprint ADI-RM-10_M (SOP, 10-Leads, Body 3x3mm, Pitch 0.5mm, IPC Low Density)
pins on every part: 4 -VS (power) "Negative Supply.", 10 +VS (power) "Positive Supply."
part A pins: 1 OUT 1 (hiz) "Output 1.", 2 -IN 1 (in) "Inverting Input 1.", 3 +IN 1 (in) "Noninverting Input 1.", 5 ~{DISABLE1} (in) "Disable 1."
part B pins: 6 ~{DISABLE2} (in) "Disable 2.", 7 +IN 2 (in) "Noninverting Input 2.", 8 -IN 2 (in) "Inverting Input 2.", 9 OUT 2 (hiz) "Output 2."

## ADA4898-1YRDZ
designator U?
Single Channel Ultra Low Noise Operational Amplifier, 65 MHz BW, 55 V/us SR, Industrial, 8-pin SOIC (RD-8-1), Tube; Generic Part Number: ADA4898-1; Manufacturer: Analog Devices; PartNumber: ADA4898-1YRDZ; Amplifiers Per Package: 1; Input Bias Current: 100nA; Input Offset Voltage: 20uV; Iq/Amp: 7.9mA; Slew Rate: 55V/us; Small Signal Bandwidth: 65MHz; V Span Max: 33V; V Span Min: 9V; DatasheetVersion: Rev. D; PackageVersion: 060506-A; PackageReference: RD-8-1; PackageDescription: 8-Pin Standard Small Outline Package, Body 4.9 x 3.9 mm, Pitch 1.27 mm; Supplier 1: Digi-Key; Supplier Part Number 1: ADA4898-1YRDZ-ND; Supplier 2: Farnell; Supplier Part Number 2: 2067796; Supplier 3: Newark; Supplier Part Number 3: 11N8700; Packing: Tube; Mounting Technology: Surface Mount; Code_JEDEC: MS-012-AA; ComponentLink1Description: Manufacturer URL; ComponentLink1URL: http://www.analog.com/en/index.html; ComponentLink2Description: Datasheet; ComponentLink2URL: http://www.analog.com/static/imported-files/data_sheets/ADA4898-1_4898-2.pdf; ComponentLink3Description: Package Specification; ComponentLink3URL: http://www.analog.com/static/imported-files/packages/PKG_PDF/SOIC_ED(RD)/RD_8_1.pdf
footprint ADI-RD-8-1_N (SOIC, 8-Leads, Body 4.9x3.9mm, Pitch 1.27mm, Thermal Pad 2.29x2.29mm, IPC Medium Density)
footprint ADI-RD-8-1_L (SOIC, 8-Leads, Body 4.9x3.9mm, Pitch 1.27mm, Thermal Pad 2.29x2.29mm, IPC High Density)
footprint ADI-RD-8-1_M (SOIC, 8-Leads, Body 4.9x3.9mm, Pitch 1.27mm, Thermal Pad 2.29x2.29mm, IPC Low Density)
pins: 1 NC "No Connect.", 2 -IN (in) "Inverting Input.", 3 +IN (in) "Noninverting Input.", 4 -VS (power) "Negative Supply.", 5 NC "No Connect.", 6 VOUT (out) "Output.", 7 +VS (power) "Positive Supply.", 8 ~{PD} (in) "Power Down Not.", 9 EP "Exposed Pad. Can be connected to the negative supply (-VS) or can be left floating."

## ADA4898-1YRDZ-R7
designator U?
Single Channel Ultra Low Noise Operational Amplifier, 65 MHz BW, 55 V/us SR, Industrial, 8-pin SOIC (RD-8-1), Reel; Generic Part Number: ADA4898-1; Manufacturer: Analog Devices; PartNumber: ADA4898-1YRDZ-R7; Amplifiers Per Package: 1; Input Bias Current: 100nA; Input Offset Voltage: 20uV; Iq/Amp: 7.9mA; Slew Rate: 55V/us; Small Signal Bandwidth: 65MHz; V Span Max: 33V; V Span Min: 9V; DatasheetVersion: Rev. D; PackageVersion: 060506-A; PackageReference: RD-8-1; PackageDescription: 8-Pin Standard Small Outline Package, Body 4.9 x 3.9 mm, Pitch 1.27 mm; Supplier 1: Digi-Key; Supplier Part Number 1: ADA4898-1YRDZ-R7-ND; Supplier 2: Newark; Supplier Part Number 2: 11N8702; Packing: Reel; Mounting Technology: Surface Mount; Code_JEDEC: MS-012-AA; ComponentLink1Description: Manufacturer URL; ComponentLink1URL: http://www.analog.com/en/index.html; ComponentLink2Description: Datasheet; ComponentLink2URL: http://www.analog.com/static/imported-files/data_sheets/ADA4898-1_4898-2.pdf; ComponentLink3Description: Package Specification; ComponentLink3URL: http://www.analog.com/static/imported-files/packages/PKG_PDF/SOIC_ED(RD)/RD_8_1.pdf
footprint ADI-RD-8-1_N (SOIC, 8-Leads, Body 4.9x3.9mm, Pitch 1.27mm, Thermal Pad 2.29x2.29mm, IPC Medium Density)
footprint ADI-RD-8-1_L (SOIC, 8-Leads, Body 4.9x3.9mm, Pitch 1.27mm, Thermal Pad 2.29x2.29mm, IPC High Density)
footprint ADI-RD-8-1_M (SOIC, 8-Leads, Body 4.9x3.9mm, Pitch 1.27mm, Thermal Pad 2.29x2.29mm, IPC Low Density)
pins: 1 NC "No Connect.", 2 -IN (in) "Inverting Input.", 3 +IN (in) "Noninverting Input.", 4 -VS (power) "Negative Supply.", 5 NC "No Connect.", 6 VOUT (out) "Output.", 7 +VS (power) "Positive Supply.", 8 ~{PD} (in) "Power Down Not.", 9 EP "Exposed Pad. Can be connected to the negative supply (-VS) or can be left floating."

## ADA4898-1YRDZ-RL
designator U?
Single Channel Ultra Low Noise Operational Amplifier, 65 MHz BW, 55 V/us SR, Industrial, 8-pin SOIC (RD-8-1), Reel; Generic Part Number: ADA4898-1; Manufacturer: Analog Devices; PartNumber: ADA4898-1YRDZ-RL; Amplifiers Per Package: 1; Input Bias Current: 100nA; Input Offset Voltage: 20uV; Iq/Amp: 7.9mA; Slew Rate: 55V/us; Small Signal Bandwidth: 65MHz; V Span Max: 33V; V Span Min: 9V; DatasheetVersion: Rev. D; PackageVersion: 060506-A; PackageReference: RD-8-1; PackageDescription: 8-Pin Standard Small Outline Package, Body 4.9 x 3.9 mm, Pitch 1.27 mm; Supplier 1: Digi-Key; Supplier Part Number 1: ADA4898-1YRDZ-RL-ND; Supplier 2: Newark; Supplier Part Number 2: 11N8701; Mounting Technology: Surface Mount; Code_JEDEC: MS-012-AA; ComponentLink1Description: Manufacturer URL; ComponentLink1URL: http://www.analog.com/en/index.html; ComponentLink2Description: Datasheet; ComponentLink2URL: http://www.analog.com/static/imported-files/data_sheets/ADA4898-1_4898-2.pdf; ComponentLink3Description: Package Specification; ComponentLink3URL: http://www.analog.com/static/imported-files/packages/PKG_PDF/SOIC_ED(RD)/RD_8_1.pdf
footprint ADI-RD-8-1_N (SOIC, 8-Leads, Body 4.9x3.9mm, Pitch 1.27mm, Thermal Pad 2.29x2.29mm, IPC Medium Density)
footprint ADI-RD-8-1_L (SOIC, 8-Leads, Body 4.9x3.9mm, Pitch 1.27mm, Thermal Pad 2.29x2.29mm, IPC High Density)
footprint ADI-RD-8-1_M (SOIC, 8-Leads, Body 4.9x3.9mm, Pitch 1.27mm, Thermal Pad 2.29x2.29mm, IPC Low Density)
pins: 1 NC "No Connect.", 2 -IN (in) "Inverting Input.", 3 +IN (in) "Noninverting Input.", 4 -VS (power) "Negative Supply.", 5 NC "No Connect.", 6 VOUT (out) "Output.", 7 +VS (power) "Positive Supply.", 8 ~{PD} (in) "Power Down Not.", 9 EP "Exposed Pad. Can be connected to the negative supply (-VS) or can be left floating."

## ADA4898-2YRDZ
designator U?
Double Channel Ultra Low Noise Operational Amplifier, 65 MHz BW, 55 V/us SR, Industrial, 8-pin SOIC (RD-8-2), Tube; Generic Part Number: ADA4898-2; Manufacturer: Analog Devices; PartNumber: ADA4898-2YRDZ; Amplifiers Per Package: 2; Input Bias Current: 100nA; Input Offset Voltage: 20uV; Iq/Amp: 7.9mA; Slew Rate: 55V/us; Small Signal Bandwidth: 65MHz; V Span Max: 33V; V Span Min: 9V; DatasheetVersion: Rev. D; PackageReference: RD-8-2; PackageDescription: 8-Pin Standard Small Outline Package, Body 4.9 x 3.9 mm, Pitch 1.27 mm; Supplier 1: Digi-Key; Supplier Part Number 1: ADA4898-2YRDZ-ND; Supplier 2: Farnell; Supplier Part Number 2: 2067790; Supplier 3: Newark; Supplier Part Number 3: 73T8141; Packing: Tube; Mounting Technology: Surface Mount; Code_JEDEC: MS-012-AA; ComponentLink1Description: Manufacturer URL; ComponentLink1URL: http://www.analog.com/en/index.html; ComponentLink2Description: Datasheet; ComponentLink2URL: http://www.analog.com/static/imported-files/data_sheets/ADA4898-1_4898-2.pdf; ComponentLink3Description: Package Specification; ComponentLink3URL: http://www.analog.com/static/imported-files/packages/62062404671038RD_8_2.pdf
footprint ADI-RD-8-2_N (SOIC, 8-Leads, Body 4.9x3.9mm, Pitch 1.27mm, Thermal Pad 3.098x2.41mm, IPC Medium Density)
footprint ADI-RD-8-2_L (SOIC, 8-Leads, Body 4.9x3.9mm, Pitch 1.27mm, Thermal Pad 3.098x2.41mm, IPC High Density)
footprint ADI-RD-8-2_M (SOIC, 8-Leads, Body 4.9x3.9mm, Pitch 1.27mm, Thermal Pad 3.098x2.41mm, IPC Low Density)
pins on every part: 4 -VS (power), 8 +VS (power), 9 EP
part A pins: 1 VOUT 1 (out), 2 -IN 1 (in), 3 +IN 1 (in)
part B pins: 5 +IN 2 (in), 6 -IN 2 (in), 7 VOUT 2 (out)

## ADA4898-2YRDZ-R7
designator U?
Double Channel Ultra Low Noise Operational Amplifier, 65 MHz BW, 55 V/us SR, Industrial, 8-pin SOIC (RD-8-2), Reel; Generic Part Number: ADA4898-2; Manufacturer: Analog Devices; PartNumber: ADA4898-2YRDZ-R7; Amplifiers Per Package: 2; Input Bias Current: 100nA; Input Offset Voltage: 20uV; Iq/Amp: 7.9mA; Slew Rate: 55V/us; Small Signal Bandwidth: 65MHz; V Span Max: 33V; V Span Min: 9V; DatasheetVersion: Rev. D; PackageReference: RD-8-2; PackageDescription: 8-Pin Standard Small Outline Package, Body 4.9 x 3.9 mm, Pitch 1.27 mm; Supplier 1: Digi-Key; Supplier Part Number 1: ADA4898-2YRDZ-R7-ND; Supplier 2: Newark; Supplier Part Number 2: 67R2176; Packing: Reel; Mounting Technology: Surface Mount; Code_JEDEC: MS-012-AA; ComponentLink1Description: Manufacturer URL; ComponentLink1URL: http://www.analog.com/en/index.html; ComponentLink2Description: Datasheet; ComponentLink2URL: http://www.analog.com/static/imported-files/data_sheets/ADA4898-1_4898-2.pdf; ComponentLink3Description: Package Specification; ComponentLink3URL: http://www.analog.com/static/imported-files/packages/62062404671038RD_8_2.pdf
footprint ADI-RD-8-2_N (SOIC, 8-Leads, Body 4.9x3.9mm, Pitch 1.27mm, Thermal Pad 3.098x2.41mm, IPC Medium Density)
footprint ADI-RD-8-2_L (SOIC, 8-Leads, Body 4.9x3.9mm, Pitch 1.27mm, Thermal Pad 3.098x2.41mm, IPC High Density)
footprint ADI-RD-8-2_M (SOIC, 8-Leads, Body 4.9x3.9mm, Pitch 1.27mm, Thermal Pad 3.098x2.41mm, IPC Low Density)
pins on every part: 4 -VS (power), 8 +VS (power), 9 EP
part A pins: 1 VOUT 1 (out), 2 -IN 1 (in), 3 +IN 1 (in)
part B pins: 5 +IN 2 (in), 6 -IN 2 (in), 7 VOUT 2 (out)

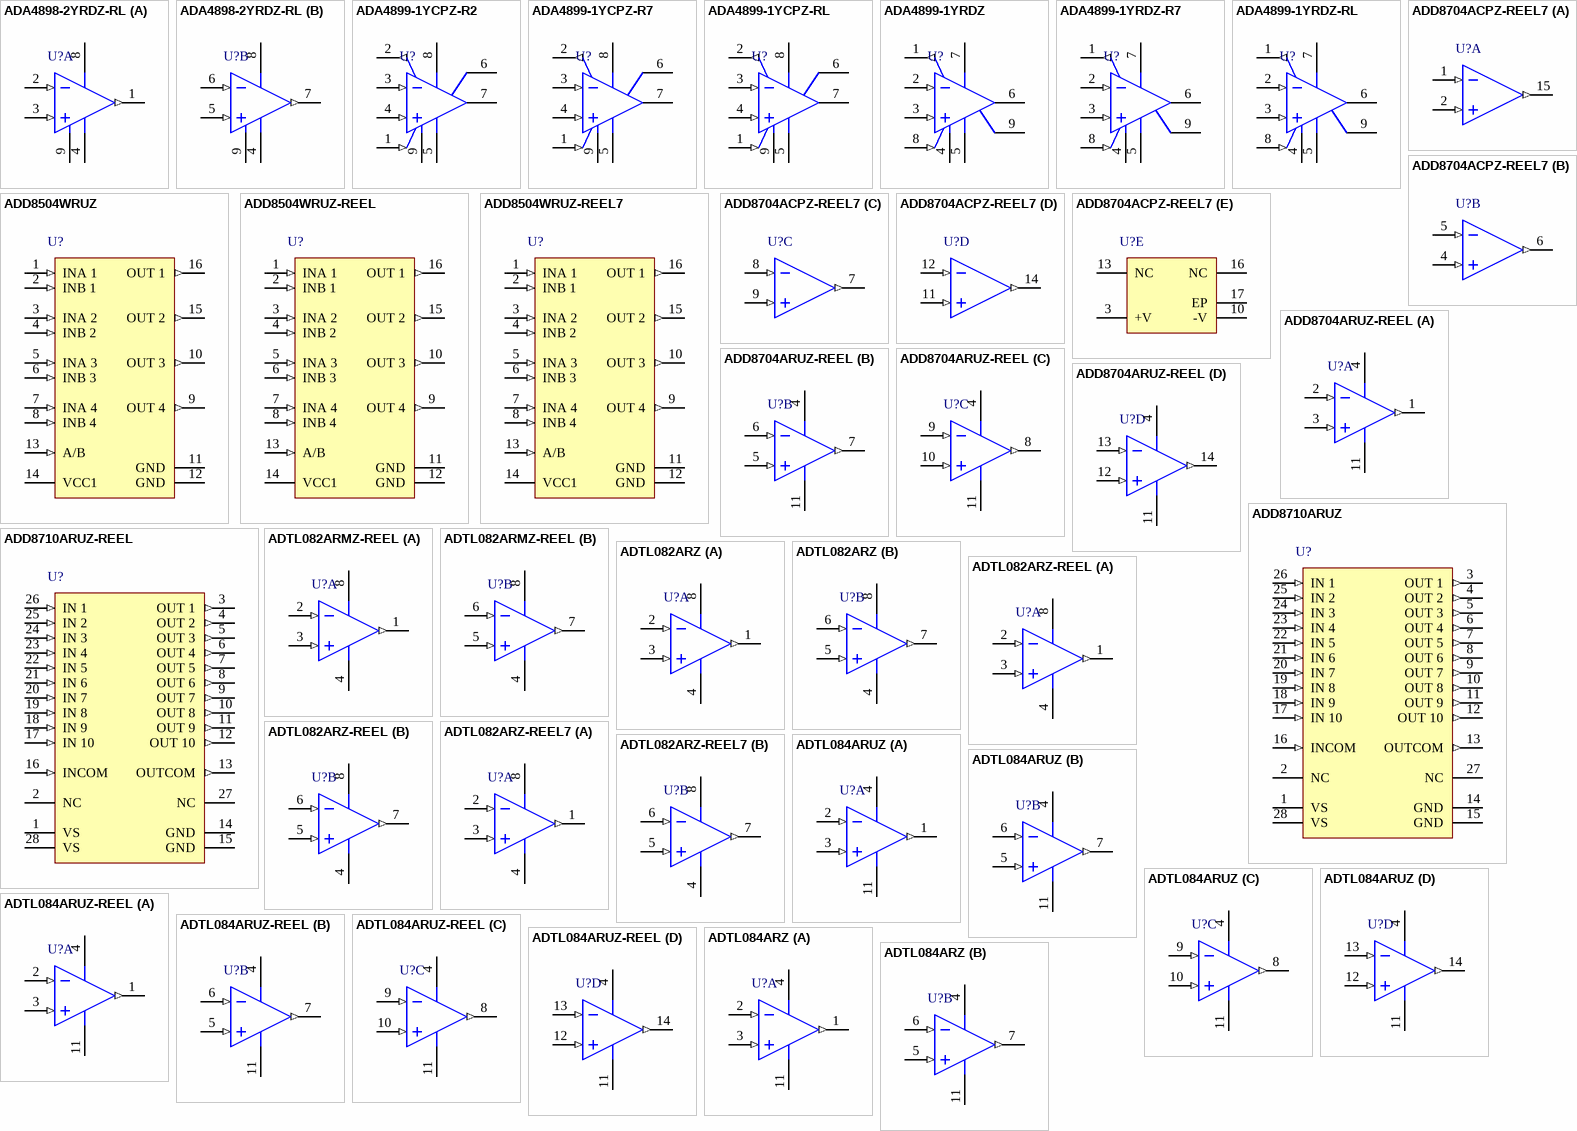
[diagram p89: symbols ADA4898-2YRDZ-RL to ADTL084ARZ]

## ADA4898-2YRDZ-RL
designator U?
Double Channel Ultra Low Noise Operational Amplifier, 65 MHz BW, 55 V/us SR, Industrial, 8-pin SOIC (RD-8-2), Reel; Generic Part Number: ADA4898-2; Manufacturer: Analog Devices; PartNumber: ADA4898-2YRDZ-RL; Amplifiers Per Package: 2; Input Bias Current: 100nA; Input Offset Voltage: 20uV; Iq/Amp: 7.9mA; Slew Rate: 55V/us; Small Signal Bandwidth: 65MHz; V Span Max: 33V; V Span Min: 9V; DatasheetVersion: Rev. D; PackageReference: RD-8-2; PackageDescription: 8-Pin Standard Small Outline Package, Body 4.9 x 3.9 mm, Pitch 1.27 mm; Supplier 1: Digi-Key; Supplier Part Number 1: ADA4898-2YRDZ-RL-ND; Supplier 2: Newark; Supplier Part Number 2: 67R2175; Packing: Reel; Mounting Technology: Surface Mount; Code_JEDEC: MS-012-AA; ComponentLink1Description: Manufacturer URL; ComponentLink1URL: http://www.analog.com/en/index.html; ComponentLink2Description: Datasheet; ComponentLink2URL: http://www.analog.com/static/imported-files/data_sheets/ADA4898-1_4898-2.pdf; ComponentLink3Description: Package Specification; ComponentLink3URL: http://www.analog.com/static/imported-files/packages/62062404671038RD_8_2.pdf
footprint ADI-RD-8-2_N (SOIC, 8-Leads, Body 4.9x3.9mm, Pitch 1.27mm, Thermal Pad 3.098x2.41mm, IPC Medium Density)
footprint ADI-RD-8-2_L (SOIC, 8-Leads, Body 4.9x3.9mm, Pitch 1.27mm, Thermal Pad 3.098x2.41mm, IPC High Density)
footprint ADI-RD-8-2_M (SOIC, 8-Leads, Body 4.9x3.9mm, Pitch 1.27mm, Thermal Pad 3.098x2.41mm, IPC Low Density)
pins on every part: 4 -VS (power), 8 +VS (power), 9 EP
part A pins: 1 VOUT 1 (out), 2 -IN 1 (in), 3 +IN 1 (in)
part B pins: 5 +IN 2 (in), 6 -IN 2 (in), 7 VOUT 2 (out)

## ADA4899-1YCPZ-R2
designator U?
Single Channel Ultra Low Noise Operational Amplifier, 600 MHz BW, 310 V/us SR, Industrial, 8-pin QFN (CP-8-2), Reel; Generic Part Number: ADA4899-1; Manufacturer: Analog Devices; PartNumber: ADA4899-1YCPZ-R2; Amplifiers Per Package: 1; Input Bias Current: 100nA; Input Offset Voltage: 35uV; Iq/Amp: 16.2mA; Small Signal Bandwidth: 600MHz; V Span Max: 12V; V Span Min: 4.5V; DatasheetVersion: Rev. B; PackageVersion: 061507-B; PackageReference: CP-8-2; PackageDescription: 8-Pin Lead Frame Chip Scale Package, Body 3 x 3 mm, Pitch 0.5 mm; Supplier 1: Newark; Supplier Part Number 1: 12M7620; Slew Rate: 310V/us; Mounting Technology: Surface Mount; ComponentLink1Description: Manufacturer URL; ComponentLink1URL: http://www.analog.com/en/index.html; ComponentLink2Description: Datasheet; ComponentLink2URL: http://www.analog.com/static/imported-files/data_sheets/ADA4899-1.pdf; ComponentLink3Description: Package Specification; ComponentLink3URL: http://www.analog.com/static/imported-files/packages/56953322593982CP_8_2.pdf; ComponentLink4Description: Reference Circuit; ComponentLink4URL: http://www.analog.com/en/all-operational-amplifiers-op-amps/operational-amplifiers-op-amps/ada4899-1/products/product.html#product-recommendations
footprint ADI-CP-8-2_N (QFN, 8-Leads, Body 3x3mm, Pitch 0.5mm, Thermal Pad 1.45X1.74mm, IPC Medium Density)
footprint ADI-CP-8-2_L (QFN, 8-Leads, Body 3x3mm, Pitch 0.5mm, Thermal Pad 1.45X1.74mm, IPC High Density)
footprint ADI-CP-8-2_M (QFN, 8-Leads, Body 3x3mm, Pitch 0.5mm, Thermal Pad 1.45X1.74mm, IPC Low Density)
pins: 1 ~{DISABLE} (in), 2 FEEDBACK (out), 3 -IN (in), 4 +IN (in), 5 -VS (power), 6 NC, 7 VOUT (hiz), 8 +VS (power), 9 EP

## ADA4899-1YCPZ-R7
designator U?
Single Channel Ultra Low Noise Operational Amplifier, 600 MHz BW, 310 V/us SR, Industrial, 8-pin QFN (CP-8-2), Reel; Generic Part Number: ADA4899-1; Manufacturer: Analog Devices; PartNumber: ADA4899-1YCPZ-R7; Amplifiers Per Package: 1; Input Bias Current: 100nA; Input Offset Voltage: 35uV; Iq/Amp: 16.2mA; Small Signal Bandwidth: 600MHz; V Span Max: 12V; V Span Min: 4.5V; DatasheetVersion: Rev. B; PackageVersion: 061507-B; PackageReference: CP-8-2; PackageDescription: 8-Pin Lead Frame Chip Scale Package, Body 3 x 3 mm, Pitch 0.5 mm; Supplier 1: Digi-Key; Supplier Part Number 1: ADA4899-1YCPZ-R7TR-ND; Supplier 2: Digi-Key; Supplier Part Number 2: ADA4899-1YCPZ-R7CT-ND; Supplier 3: Digi-Key; Supplier Part Number 3: ADA4899-1YCPZ-R7DKR-ND; Supplier 4: Newark; Supplier Part Number 4: 12M7621; Slew Rate: 310V/us; Mounting Technology: Surface Mount; ComponentLink1Description: Manufacturer URL; ComponentLink1URL: http://www.analog.com/en/index.html; ComponentLink2Description: Datasheet; ComponentLink2URL: http://www.analog.com/static/imported-files/data_sheets/ADA4899-1.pdf; ComponentLink3Description: Package Specification; ComponentLink3URL: http://www.analog.com/static/imported-files/packages/56953322593982CP_8_2.pdf; ComponentLink4Description: Reference Circuit; ComponentLink4URL: http://www.analog.com/en/all-operational-amplifiers-op-amps/operational-amplifiers-op-amps/ada4899-1/products/product.html#product-recommendations
footprint ADI-CP-8-2_N (QFN, 8-Leads, Body 3x3mm, Pitch 0.5mm, Thermal Pad 1.45X1.74mm, IPC Medium Density)
footprint ADI-CP-8-2_L (QFN, 8-Leads, Body 3x3mm, Pitch 0.5mm, Thermal Pad 1.45X1.74mm, IPC High Density)
footprint ADI-CP-8-2_M (QFN, 8-Leads, Body 3x3mm, Pitch 0.5mm, Thermal Pad 1.45X1.74mm, IPC Low Density)
pins: 1 ~{DISABLE} (in), 2 FEEDBACK (out), 3 -IN (in), 4 +IN (in), 5 -VS (power), 6 NC, 7 VOUT (hiz), 8 +VS (power), 9 EP

## ADA4899-1YCPZ-RL
designator U?
Single Channel Ultra Low Noise Operational Amplifier, 600 MHz BW, 310 V/us SR, Industrial, 8-pin QFN (CP-8-2), Reel; Generic Part Number: ADA4899-1; Manufacturer: Analog Devices; PartNumber: ADA4899-1YCPZ-RL; Amplifiers Per Package: 1; Input Bias Current: 100nA; Input Offset Voltage: 35uV; Iq/Amp: 16.2mA; Small Signal Bandwidth: 600MHz; V Span Max: 12V; V Span Min: 4.5V; DatasheetVersion: Rev. B; PackageVersion: 061507-B; PackageReference: CP-8-2; PackageDescription: 8-Pin Lead Frame Chip Scale Package, Body 3 x 3 mm, Pitch 0.5 mm; Supplier 1: Digi-Key; Supplier Part Number 1: ADA4899-1YCPZ-RL-ND; Slew Rate: 310V/us; Mounting Technology: Surface Mount; ComponentLink1Description: Manufacturer URL; ComponentLink1URL: http://www.analog.com/en/index.html; ComponentLink2Description: Datasheet; ComponentLink2URL: http://www.analog.com/static/imported-files/data_sheets/ADA4899-1.pdf; ComponentLink3Description: Package Specification; ComponentLink3URL: http://www.analog.com/static/imported-files/packages/56953322593982CP_8_2.pdf; ComponentLink4Description: Reference Circuit; ComponentLink4URL: http://www.analog.com/en/all-operational-amplifiers-op-amps/operational-amplifiers-op-amps/ada4899-1/products/product.html#product-recommendations
footprint ADI-CP-8-2_N (QFN, 8-Leads, Body 3x3mm, Pitch 0.5mm, Thermal Pad 1.45X1.74mm, IPC Medium Density)
footprint ADI-CP-8-2_L (QFN, 8-Leads, Body 3x3mm, Pitch 0.5mm, Thermal Pad 1.45X1.74mm, IPC High Density)
footprint ADI-CP-8-2_M (QFN, 8-Leads, Body 3x3mm, Pitch 0.5mm, Thermal Pad 1.45X1.74mm, IPC Low Density)
pins: 1 ~{DISABLE} (in), 2 FEEDBACK (out), 3 -IN (in), 4 +IN (in), 5 -VS (power), 6 NC, 7 VOUT (hiz), 8 +VS (power), 9 EP

## ADA4899-1YRDZ
designator U?
Single Channel Ultra Low Noise Operational Amplifier, 600 MHz BW, 310 V/us SR, Industrial, 8-pin SOIC (RD-8-1), Tube; Generic Part Number: ADA4899-1; Manufacturer: Analog Devices; PartNumber: ADA4899-1YRDZ; Amplifiers Per Package: 1; Input Bias Current: 100nA; Input Offset Voltage: 35uV; Iq/Amp: 16.2mA; Small Signal Bandwidth: 600MHz; V Span Max: 12V; V Span Min: 4.5V; DatasheetVersion: Rev. B; PackageVersion: 060506-A; PackageReference: RD-8-1; PackageDescription: 8-Pin Standard Small Outline Package, Body 4.9 x 3.9 mm, Pitch 1.27 mm; Supplier 1: Digi-Key; Supplier Part Number 1: ADA4899-1YRDZ-ND; Supplier 2: Farnell; Supplier Part Number 2: 1274191; Supplier 3: Newark; Supplier Part Number 3: 19M0651; Slew Rate: 310V/us; Mounting Technology: Surface Mount; Code_JEDEC: MS-012-AA; ComponentLink1Description: Manufacturer URL; ComponentLink1URL: http://www.analog.com/en/index.html; ComponentLink2Description: Datasheet; ComponentLink2URL: http://www.analog.com/static/imported-files/data_sheets/ADA4899-1.pdf; ComponentLink3Description: Package Specification; ComponentLink3URL: http://www.analog.com/static/imported-files/packages/PKG_PDF/SOIC_ED(RD)/RD_8_1.pdf; ComponentLink4Description: Reference Circuit; ComponentLink4URL: http://www.analog.com/en/all-operational-amplifiers-op-amps/operational-amplifiers-op-amps/ada4899-1/products/product.html#product-recommendations
footprint ADI-RD-8-1_N (SOIC, 8-Leads, Body 4.9x3.9mm, Pitch 1.27mm, Thermal Pad 2.29x2.29mm, IPC Medium Density)
footprint ADI-RD-8-1_L (SOIC, 8-Leads, Body 4.9x3.9mm, Pitch 1.27mm, Thermal Pad 2.29x2.29mm, IPC High Density)
footprint ADI-RD-8-1_M (SOIC, 8-Leads, Body 4.9x3.9mm, Pitch 1.27mm, Thermal Pad 2.29x2.29mm, IPC Low Density)
pins: 1 FEEDBACK (out), 2 -IN (in), 3 +IN (in), 4 -VS (power), 5 -VS (power), 6 VOUT (hiz), 7 +VS (power), 8 ~{DISABLE} (in), 9 EP